# Altium footprint library O_JonF_DaveL.PcbLib: 331 footprints (part 8 of 21)
Each footprint in its own frame and in the unit in brackets; x right, y up, seen from the top. Pads: shape width x height; smd on the part's side, far side on the other; paste and mask are expansions set on the pad; w line width, h text height; cw(c..) or ccw(c..) is an arc to the next point about the centre after c.
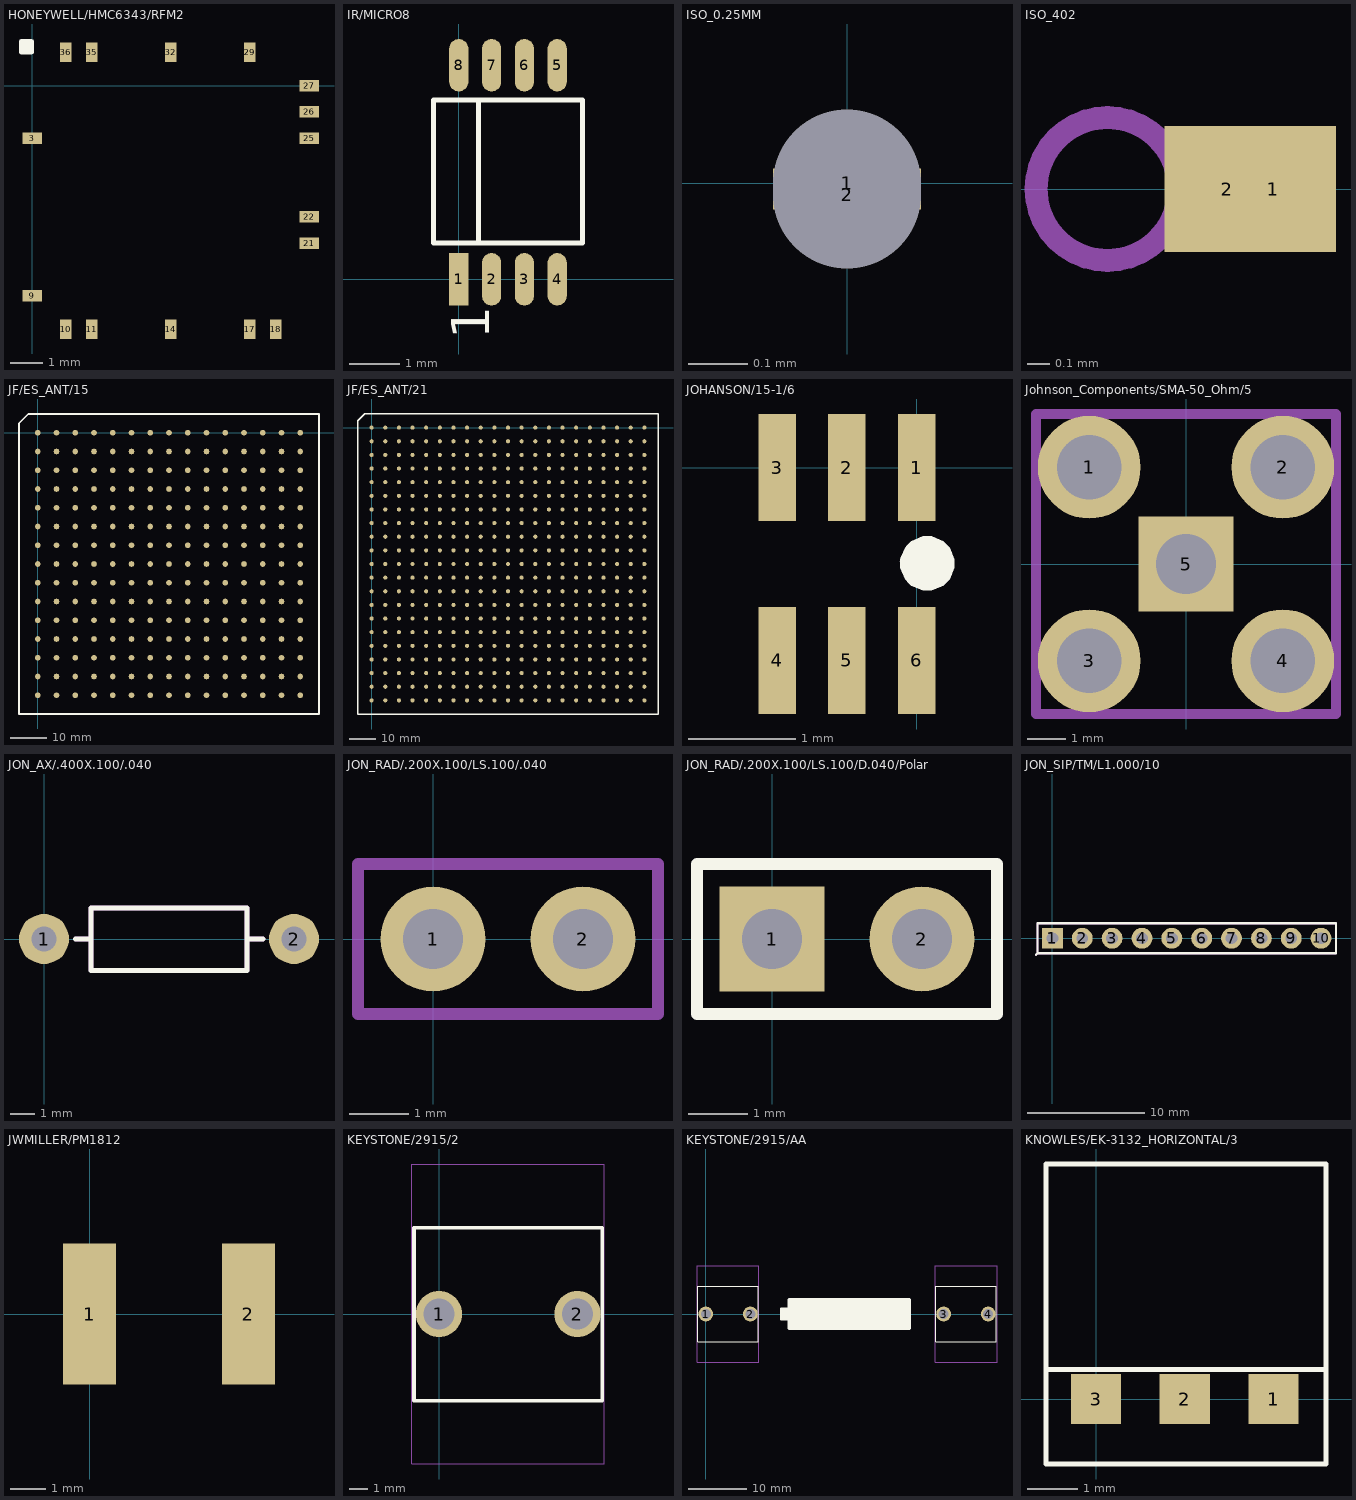
[diagram p7: the footprints below, top view; thin cyan lines are the x and y axes]

## HONEYWELL/HMC6343/RFM2 [mm]
pads (16):
  rect 0.6x0.35 smd: 3(0,-1.6) 9(0,-6.4) 21(8.43,-4.8) 22(8.43,-4) 25(8.43,-1.6) 26(8.43,-0.8) 27(8.43,0)
  rect 0.35x0.6 smd: 10(1.015,-7.415) 11(1.815,-7.415) 14(4.215,-7.415) 17(6.615,-7.415) 18(7.415,-7.415) 29(6.615,1.015) 32(4.215,1.015) 35(1.815,1.015) 36(1.015,1.015)
Top Overlay:
  region: 0.028,1.403 0.044,1.365 0.044,1.01 0.028,0.972 -0.01,0.956 -0.35,0.956 -0.388,0.972 -0.404,1.01 -0.404,1.365 -0.388,1.403 -0.35,1.419 -0.01,1.419
  text ".Designator" at -0.57,1.55 h1.5
Mechanical 1:
  text ".Pattern" at 0,0 h1.5
  text ".Comment" at 0,6 h1.5
  text ".Designator" at 0,9 h1.5

## IR/MICRO8 [mm]
pads (8):
  rect 0.38x1.04 smd: 1(0,0)
  oval 0.38x1.04 smd: 2(0.65,0) 3(1.3,0) 4(1.95,0) 5(1.95,4.24) 6(1.3,4.24) 7(0.65,4.24) 8(0,4.24)
Top Overlay:
  lines w0.1: 0.389,0.74 0.389,3.53 ; -0.5,0.72 -0.5,3.55 2.45,3.55 2.45,0.72 -0.5,0.72
  text "." at -0.108,1 h0.38
  text "1" at 0.599,-1.183 h0.75
  text ".Designator" at -0.88,4.88 h1.5
Mechanical 1:
  text ".Pattern" at -0.89,-3.04 h1.5
  text ".Comment" at -1.07,8.83 h1.5
  text ".Designator" at -0.91,4.88 h1.5

## ISO_0.25MM [mm]
pads (2):
  rect 0.25x0.05 hole 0.25: 1(0,0) 2(0,-0.02)

## ISO_402 [mil]
pads (2):
  rect 22x22 smd: 1(50,0) 2(42,0)
Mechanical 1:
  text ".Designator" at 11.55,19.38 h37.5
Mechanical 3:
  lines w4: 8.5,0 cw(c21,0) 21,12.5 cw(c21,0) 33.5,0 cw(c21,0) 21,-12.5 cw(c21,0) 8.5,0

## JF/ES_ANT/15 [mil]
pads (225):
  round 60 smd: A1(0,0) A2(200,0) A3(400,0) A4(600,0) A5(800,0) A6(1000,0) A7(1200,0) A8(1400,0) A9(1600,0) A10(1800,0) A11(2000,0) A12(2200,0) A13(2400,0) A14(2600,0) A15(2800,0) B1(0,-200) B2(200,-200) B3(400,-200) B4(600,-200) B5(800,-200) B6(1000,-200) B7(1200,-200) B8(1400,-200) B9(1600,-200) B10(1800,-200) B11(2000,-200) B12(2200,-200) B13(2400,-200) B14(2600,-200) B15(2800,-200) C1(0,-400) C2(200,-400) C3(400,-400) C4(600,-400) C5(800,-400) C6(1000,-400) C7(1200,-400) C8(1400,-400) C9(1600,-400) C10(1800,-400) C11(2000,-400) C12(2200,-400) C13(2400,-400) C14(2600,-400) C15(2800,-400) D1(0,-600) D2(200,-600) D3(400,-600) D4(600,-600) D5(800,-600) D6(1000,-600) D7(1200,-600) D8(1400,-600) D9(1600,-600) D10(1800,-600) D11(2000,-600) D12(2200,-600) D13(2400,-600) D14(2600,-600) D15(2800,-600) E1(0,-800) E2(200,-800) E3(400,-800) E4(600,-800) E5(800,-800) E6(1000,-800) E7(1200,-800) E8(1400,-800) E9(1600,-800) E10(1800,-800) E11(2000,-800) E12(2200,-800) E13(2400,-800) E14(2600,-800) E15(2800,-800) F1(0,-1000) F2(200,-1000) F3(400,-1000) F4(600,-1000) F5(800,-1000) F6(1000,-1000) F7(1200,-1000) F8(1400,-1000) F9(1600,-1000) F10(1800,-1000) F11(2000,-1000) F12(2200,-1000) F13(2400,-1000) F14(2600,-1000) F15(2800,-1000) G1(0,-1200) G2(200,-1200) G3(400,-1200) G4(600,-1200) G5(800,-1200) G6(1000,-1200) G7(1200,-1200) G8(1400,-1200) G9(1600,-1200) G10(1800,-1200) G11(2000,-1200) G12(2200,-1200) G13(2400,-1200) G14(2600,-1200) G15(2800,-1200) H1(0,-1400) H2(200,-1400) H3(400,-1400) H4(600,-1400) H5(800,-1400) H6(1000,-1400) H7(1200,-1400) H8(1400,-1400) H9(1600,-1400) H10(1800,-1400) H11(2000,-1400) H12(2200,-1400) H13(2400,-1400) H14(2600,-1400) H15(2800,-1400) J1(0,-1600) J2(200,-1600) J3(400,-1600) J4(600,-1600) J5(800,-1600) J6(1000,-1600) J7(1200,-1600) J8(1400,-1600) J9(1600,-1600) J10(1800,-1600) J11(2000,-1600) J12(2200,-1600) J13(2400,-1600) J14(2600,-1600) J15(2800,-1600) K1(0,-1800) K2(200,-1800) K3(400,-1800) K4(600,-1800) K5(800,-1800) K6(1000,-1800) K7(1200,-1800) K8(1400,-1800) K9(1600,-1800) K10(1800,-1800) K11(2000,-1800) K12(2200,-1800) K13(2400,-1800) K14(2600,-1800) K15(2800,-1800) L1(0,-2000) L2(200,-2000) L3(400,-2000) L4(600,-2000) L5(800,-2000) L6(1000,-2000) L7(1200,-2000) L8(1400,-2000) L9(1600,-2000) L10(1800,-2000) L11(2000,-2000) L12(2200,-2000) L13(2400,-2000) L14(2600,-2000) L15(2800,-2000) M1(0,-2200) M2(200,-2200) M3(400,-2200) M4(600,-2200) M5(800,-2200) M6(1000,-2200) M7(1200,-2200) M8(1400,-2200) M9(1600,-2200) M10(1800,-2200) M11(2000,-2200) M12(2200,-2200) M13(2400,-2200) M14(2600,-2200) M15(2800,-2200) N1(0,-2400) N2(200,-2400) N3(400,-2400) N4(600,-2400) N5(800,-2400) N6(1000,-2400) N7(1200,-2400) N8(1400,-2400) N9(1600,-2400) N10(1800,-2400) N11(2000,-2400) N12(2200,-2400) N13(2400,-2400) N14(2600,-2400) N15(2800,-2400) P1(0,-2600) P2(200,-2600) P3(400,-2600) P4(600,-2600) P5(800,-2600) P6(1000,-2600) P7(1200,-2600) P8(1400,-2600) P9(1600,-2600) P10(1800,-2600) P11(2000,-2600) P12(2200,-2600) P13(2400,-2600) P14(2600,-2600) P15(2800,-2600) R1(0,-2800) R2(200,-2800) R3(400,-2800) R4(600,-2800) R5(800,-2800) R6(1000,-2800) R7(1200,-2800) R8(1400,-2800) R9(1600,-2800) R10(1800,-2800) R11(2000,-2800) R12(2200,-2800) R13(2400,-2800) R14(2600,-2800) R15(2800,-2800)
Top Overlay:
  lines w20: -200,-3000 3000,-3000 3000,200 -100,200 -200,100 -200,-3000

## JF/ES_ANT/21 [mil]
pads (441):
  round 60 smd: A1(0,0) A2(200,0) A3(400,0) A4(600,0) A5(800,0) A6(1000,0) A7(1200,0) A8(1400,0) A9(1600,0) A10(1800,0) A11(2000,0) A12(2200,0) A13(2400,0) A14(2600,0) A15(2800,0) A16(3000,0) A17(3200,0) A18(3400,0) A19(3600,0) A20(3800,0) A21(4000,0) AA1(0,-4000) AA2(200,-4000) AA3(400,-4000) AA4(600,-4000) AA5(800,-4000) AA6(1000,-4000) AA7(1200,-4000) AA8(1400,-4000) AA9(1600,-4000) AA10(1800,-4000) AA11(2000,-4000) AA12(2200,-4000) AA13(2400,-4000) AA14(2600,-4000) AA15(2800,-4000) AA16(3000,-4000) AA17(3200,-4000) AA18(3400,-4000) AA19(3600,-4000) AA20(3800,-4000) AA21(4000,-4000) B1(0,-200) B2(200,-200) B3(400,-200) B4(600,-200) B5(800,-200) B6(1000,-200) B7(1200,-200) B8(1400,-200) B9(1600,-200) B10(1800,-200) B11(2000,-200) B12(2200,-200) B13(2400,-200) B14(2600,-200) B15(2800,-200) B16(3000,-200) B17(3200,-200) B18(3400,-200) B19(3600,-200) B20(3800,-200) B21(4000,-200) C1(0,-400) C2(200,-400) C3(400,-400) C4(600,-400) C5(800,-400) C6(1000,-400) C7(1200,-400) C8(1400,-400) C9(1600,-400) C10(1800,-400) C11(2000,-400) C12(2200,-400) C13(2400,-400) C14(2600,-400) C15(2800,-400) C16(3000,-400) C17(3200,-400) C18(3400,-400) C19(3600,-400) C20(3800,-400) C21(4000,-400) D1(0,-600) D2(200,-600) D3(400,-600) D4(600,-600) D5(800,-600) D6(1000,-600) D7(1200,-600) D8(1400,-600) D9(1600,-600) D10(1800,-600) D11(2000,-600) D12(2200,-600) D13(2400,-600) D14(2600,-600) D15(2800,-600) D16(3000,-600) D17(3200,-600) D18(3400,-600) D19(3600,-600) D20(3800,-600) D21(4000,-600) E1(0,-800) E2(200,-800) E3(400,-800) E4(600,-800) E5(800,-800) E6(1000,-800) E7(1200,-800) E8(1400,-800) E9(1600,-800) E10(1800,-800) E11(2000,-800) E12(2200,-800) E13(2400,-800) E14(2600,-800) E15(2800,-800) E16(3000,-800) E17(3200,-800) E18(3400,-800) E19(3600,-800) E20(3800,-800) E21(4000,-800) F1(0,-1000) F2(200,-1000) F3(400,-1000) F4(600,-1000) F5(800,-1000) F6(1000,-1000) F7(1200,-1000) F8(1400,-1000) F9(1600,-1000) F10(1800,-1000) F11(2000,-1000) F12(2200,-1000) F13(2400,-1000) F14(2600,-1000) F15(2800,-1000) F16(3000,-1000) F17(3200,-1000) F18(3400,-1000) F19(3600,-1000) F20(3800,-1000) F21(4000,-1000) G1(0,-1200) G2(200,-1200) G3(400,-1200) G4(600,-1200) G5(800,-1200) G6(1000,-1200) G7(1200,-1200) G8(1400,-1200) G9(1600,-1200) G10(1800,-1200) G11(2000,-1200) G12(2200,-1200) G13(2400,-1200) G14(2600,-1200) G15(2800,-1200) G16(3000,-1200) G17(3200,-1200) G18(3400,-1200) G19(3600,-1200) G20(3800,-1200) G21(4000,-1200) H1(0,-1400) H2(200,-1400) H3(400,-1400) H4(600,-1400) H5(800,-1400) H6(1000,-1400) H7(1200,-1400) H8(1400,-1400) H9(1600,-1400) H10(1800,-1400) H11(2000,-1400) H12(2200,-1400) H13(2400,-1400) H14(2600,-1400) H15(2800,-1400) H16(3000,-1400) H17(3200,-1400) H18(3400,-1400) H19(3600,-1400) H20(3800,-1400) H21(4000,-1400) J1(0,-1600) J2(200,-1600) J3(400,-1600) J4(600,-1600) J5(800,-1600) J6(1000,-1600) J7(1200,-1600) J8(1400,-1600) J9(1600,-1600) J10(1800,-1600) J11(2000,-1600) J12(2200,-1600) J13(2400,-1600) J14(2600,-1600) J15(2800,-1600) J16(3000,-1600) J17(3200,-1600) J18(3400,-1600) J19(3600,-1600) J20(3800,-1600) J21(4000,-1600) K1(0,-1800) K2(200,-1800) K3(400,-1800) K4(600,-1800) K5(800,-1800) K6(1000,-1800) K7(1200,-1800) K8(1400,-1800) K9(1600,-1800) K10(1800,-1800) K11(2000,-1800) K12(2200,-1800) K13(2400,-1800) K14(2600,-1800) K15(2800,-1800) K16(3000,-1800) K17(3200,-1800) K18(3400,-1800) K19(3600,-1800) K20(3800,-1800) K21(4000,-1800) L1(0,-2000) L2(200,-2000) L3(400,-2000) L4(600,-2000) L5(800,-2000) L6(1000,-2000) L7(1200,-2000) L8(1400,-2000) L9(1600,-2000) L10(1800,-2000) L11(2000,-2000) L12(2200,-2000) L13(2400,-2000) L14(2600,-2000) L15(2800,-2000) L16(3000,-2000) L17(3200,-2000) L18(3400,-2000) L19(3600,-2000) L20(3800,-2000) L21(4000,-2000) M1(0,-2200) M2(200,-2200) M3(400,-2200) M4(600,-2200) M5(800,-2200) M6(1000,-2200) M7(1200,-2200) M8(1400,-2200) M9(1600,-2200) M10(1800,-2200) M11(2000,-2200) M12(2200,-2200) M13(2400,-2200) M14(2600,-2200) M15(2800,-2200) M16(3000,-2200) M17(3200,-2200) M18(3400,-2200) M19(3600,-2200) M20(3800,-2200) M21(4000,-2200) N1(0,-2400) N2(200,-2400) N3(400,-2400) N4(600,-2400) N5(800,-2400) N6(1000,-2400) N7(1200,-2400) N8(1400,-2400) N9(1600,-2400) N10(1800,-2400) N11(2000,-2400) N12(2200,-2400) N13(2400,-2400) N14(2600,-2400) N15(2800,-2400) N16(3000,-2400) N17(3200,-2400) N18(3400,-2400) N19(3600,-2400) N20(3800,-2400) N21(4000,-2400) P1(0,-2600) P2(200,-2600) P3(400,-2600) P4(600,-2600) P5(800,-2600) P6(1000,-2600) P7(1200,-2600) P8(1400,-2600) P9(1600,-2600) P10(1800,-2600) P11(2000,-2600) P12(2200,-2600) P13(2400,-2600) P14(2600,-2600) P15(2800,-2600) P16(3000,-2600) P17(3200,-2600) P18(3400,-2600) P19(3600,-2600) P20(3800,-2600) P21(4000,-2600) R1(0,-2800) R2(200,-2800) R3(400,-2800) R4(600,-2800) R5(800,-2800) R6(1000,-2800) R7(1200,-2800) R8(1400,-2800) R9(1600,-2800) R10(1800,-2800) R11(2000,-2800) R12(2200,-2800) R13(2400,-2800) R14(2600,-2800) R15(2800,-2800) R16(3000,-2800) R17(3200,-2800) R18(3400,-2800) R19(3600,-2800) R20(3800,-2800) R21(4000,-2800) T1(0,-3000) T2(200,-3000) T3(400,-3000) T4(600,-3000) T5(800,-3000) T6(1000,-3000) T7(1200,-3000) T8(1400,-3000) T9(1600,-3000) T10(1800,-3000) T11(2000,-3000) T12(2200,-3000) T13(2400,-3000) T14(2600,-3000) T15(2800,-3000) T16(3000,-3000) T17(3200,-3000) T18(3400,-3000) T19(3600,-3000) T20(3800,-3000) T21(4000,-3000) U1(0,-3200) U2(200,-3200) U3(400,-3200) U4(600,-3200) U5(800,-3200) U6(1000,-3200) U7(1200,-3200) U8(1400,-3200) U9(1600,-3200) U10(1800,-3200) U11(2000,-3200) U12(2200,-3200) U13(2400,-3200) U14(2600,-3200) U15(2800,-3200) U16(3000,-3200) U17(3200,-3200) U18(3400,-3200) U19(3600,-3200) U20(3800,-3200) U21(4000,-3200) V1(0,-3400) V2(200,-3400) V3(400,-3400) V4(600,-3400) V5(800,-3400) V6(1000,-3400) V7(1200,-3400) V8(1400,-3400) V9(1600,-3400) V10(1800,-3400) V11(2000,-3400) V12(2200,-3400) V13(2400,-3400) V14(2600,-3400) V15(2800,-3400) V16(3000,-3400) V17(3200,-3400) V18(3400,-3400) V19(3600,-3400) V20(3800,-3400) V21(4000,-3400) W1(0,-3600) W2(200,-3600) W3(400,-3600) W4(600,-3600) W5(800,-3600) W6(1000,-3600) W7(1200,-3600) W8(1400,-3600) W9(1600,-3600) W10(1800,-3600) W11(2000,-3600) W12(2200,-3600) W13(2400,-3600) W14(2600,-3600) W15(2800,-3600) W16(3000,-3600) W17(3200,-3600) W18(3400,-3600) W19(3600,-3600) W20(3800,-3600) W21(4000,-3600) Y1(0,-3800) Y2(200,-3800) Y3(400,-3800) Y4(600,-3800) Y5(800,-3800) Y6(1000,-3800) Y7(1200,-3800) Y8(1400,-3800) Y9(1600,-3800) Y10(1800,-3800) Y11(2000,-3800) Y12(2200,-3800) Y13(2400,-3800) Y14(2600,-3800) Y15(2800,-3800) Y16(3000,-3800) Y17(3200,-3800) Y18(3400,-3800) Y19(3600,-3800) Y20(3800,-3800) Y21(4000,-3800)
Top Overlay:
  lines w20: -200,-4200 -200,100 -100,200 4200,200 4200,-4200 -200,-4200

## JOHANSON/15-1/6 [mm]
pads (6):
  rect 0.35x1 smd: 1(0,0) 2(-0.65,0) 3(-1.3,0) 4(-1.3,-1.8) 5(-0.65,-1.8) 6(0,-1.8)
Top Overlay:
  region: 0.141,-0.643 0.249,-0.688 0.268,-0.707 0.307,-0.746 0.352,-0.854 0.352,-0.936 0.307,-1.044 0.288,-1.063 0.249,-1.102 0.141,-1.147 0.059,-1.147 -0.049,-1.102 -0.068,-1.083 -0.107,-1.044 -0.152,-0.936 -0.152,-0.895 -0.152,-0.888 -0.156,-0.877 -0.154,-0.874 -0.154,-0.872 -0.152,-0.868 -0.152,-0.854 -0.148,-0.843 -0.147,-0.842 -0.147,-0.841 -0.107,-0.746 -0.088,-0.727 -0.049,-0.688 0.059,-0.643
  text ".Designator" at 0,9 h1.5
Mechanical 1:
  text ".Pattern" at 0,0 h1.5
  text ".Comment" at 0,6 h1.5
  text ".Designator" at 0,9 h1.5

## Johnson_Components/SMA-50_Ohm/5 [mm]
pads (5):
  round 2.7 hole 1.7: 1(-2.54,2.54) 2(2.54,2.54) 3(-2.54,-2.54) 4(2.54,-2.54)
  rect 2.5x2.5 hole 1.57: 5(0,0)
Mechanical 1:
  lines w0.25: -3.937,-3.937 -3.937,3.937 3.937,3.937 3.937,-3.937 -3.937,-3.937

## JON_AX/.400X.100/.040 [mil]
pads (2):
  round 80 / inner round 52 / far side round 80 hole 40: 1(0,0) 2(400,0)
Top Overlay:
  lines w8: 50,0 75,0 ; 350,0 325,0 ; 75,0 75,-50 325,-50 325,0 ; 75,0 75,50 325,50 325,0
  text ".Designator" at 110.45,54.38 h37.5
Mechanical 1:
  lines w8: 50,0 75,0 ; 350,0 325,0 ; 75,0 75,-50 325,-50 325,0 ; 75,0 75,50 325,50 325,0
  text ".Designator" at 135.45,29.38 h37.5
  text ".Comment" at 117.67,-68.73 h37.5
  text ".Pattern" at 60.23,-18.38 h22.5

## JON_RAD/.200X.100/LS.100/.040 [mil]
pads (2):
  round 70 / inner round 52 / far side round 70 hole 40: 1(0,0) 2(100,0)
Top Overlay:
  text ".Designator" at -14.55,54.38 h37.5
Mechanical 1:
  lines w8: -50,-50 150,-50 ; -50,-50 -50,50 ; -50,-50 150,-50 ; -50,-50 -50,50 ; -50,50 150,50 ; -50,50 150,50 ; 150,-50 150,50 ; 150,-50 150,50
  text ".Pattern" at -156.43,-18.38 h22.5
  text ".Designator" at -14.55,54.38 h37.5
  text ".Comment" at -32.33,-118.73 h37.5

## JON_RAD/.200X.100/LS.100/D.040/Polar [mil]
pads (2):
  rect 70x70 / inner round 52 / far side round 70 hole 40: 1(0,0)
  round 70 / inner round 52 / far side round 70 hole 40: 2(100,0)
Top Overlay:
  lines w8: -50,-50 -50,50 ; -50,-50 150,-50 ; -50,-50 -50,50 ; -50,-50 150,-50 ; -50,50 150,50 ; -50,50 150,50 ; 150,-50 150,50 ; 150,-50 150,50

## JON_SIP/TM/L1.000/10 [mil]
pads (10):
  rect 70x70 / inner rect 55x55 / far side rect 70x70 hole 40: 1(0,0)
  round 70 / inner round 55 / far side round 70 hole 40: 2(100,0) 3(200,0) 4(300,0) 5(400,0) 6(500,0) 7(600,0) 8(700,0) 9(800,0) 10(900,0)
Top Overlay:
  lines w8: -55,-55 -50,-50 ; -50,-50 -50,50 950,50 950,-50 -48.8,-50 -50,-50
  text ".Designator" at -111.45,84.38 h37.5
Mechanical 1:
  lines w8: -55,-55 -50,-50 ; -50,-50 -50,50 950,50 950,-50 -48.8,-50 -50,-50
  text ".Pattern" at 316.67,-43.38 h22.5
  text ".Designator" at 388.55,59.38 h37.5
  text ".Comment" at 367.67,-130.63 h37.5

## JWMILLER/PM1812 [mm]
pads (2):
  rect 1.5x4 smd: 1(0,0) 2(4.5,0)
Top Overlay:
  text ".Designator" at -1,-5 h1.5
Mechanical 1:
  text ".Designator" at -1,-5 h1.5
  text ".Comment" at -1,-7 h1.5
  text ".Pattern" at -1,-11 h1.5

## KEYSTONE/2915/2 [mil]
pads (2):
  round 100 / inner round 84 / far side round 100 hole 67: 1(0,0) 2(300,0)
Top Overlay:
  lines w8: -54,-188 354,-188 354,187 -54,187 -54,-188
  text ".Designator" at -54,202.5 h56.25
Mechanical 1:
  lines w1: -59,-325 358,-325 358,325 -59,325 -59,-325
  text ".Designator" at -61,137.5 h56.25
  text ".Comment" at -61,25 h56.25
  text ".Pattern" at -61,-200 h56.25

## KEYSTONE/2915/AA [mil]
pads (4):
  round 100 / inner round 84 / far side round 100 hole 67: 1(0,0) 2(300,0) 3(1600,0) 4(1900,0)
Top Overlay:
  region: 561.83,38.83 563.41,35 563.41,-35 561.83,-38.83 558,-40.41 506,-40.41 502.17,-38.83 500.59,-35 500.59,35 502.17,38.83 506,40.41 558,40.41
  region: 1375.83,103.83 1377.41,100 1377.41,-100 1375.83,-103.83 1372,-105.41 558,-105.41 554.17,-103.83 552.59,-100 552.59,100 554.17,103.83 558,105.41 1372,105.41
  lines w8: -54,-188 354,-188 354,187 -54,187 -54,-188 ; 1547,-188 1955,-188 1955,187 1547,187 1547,-188
  text ".Designator" at -54,202.5 h56.25
Mechanical 1:
  lines w1: -59,-325 358,-325 358,325 -59,325 -59,-325 ; 1542,-325 1959,-325 1959,325 1542,325 1542,-325
  text ".Designator" at -61,137.5 h56.25
  text ".Comment" at -61,25 h56.25
  text ".Pattern" at -61,-200 h56.25

## KNOWLES/EK-3132_HORIZONTAL/3 [mm]
pads (3):
  rect 1x1 smd: 1(3.55,0) 2(1.775,0) 3(0,0)
Top Overlay:
  lines w0.1: -1.002,0.594 4.602,0.594 4.602,4.7 -1.002,4.7 -1.002,0.594 ; -1,-1.3 -1,0.594 4.6,0.594 4.6,-1.3 -1,-1.3
  text ".Designator" at -0.4,1.3 h1.5
Mechanical 1:
  text "MIC FACES THIS SIDE" at -5,-3 h0.75
  text ".Designator" at -0.4,1.3 h1.5
  text ".Comment" at 0,6 h1.5
  text ".Pattern" at 0,2 h1.5